# Altium schematic symbol library jlcpcb_2025_04_ferrites_extended_1812.schlib: 36 symbols
Pins are listed as number, name and electrical type; pins without a type are passive.

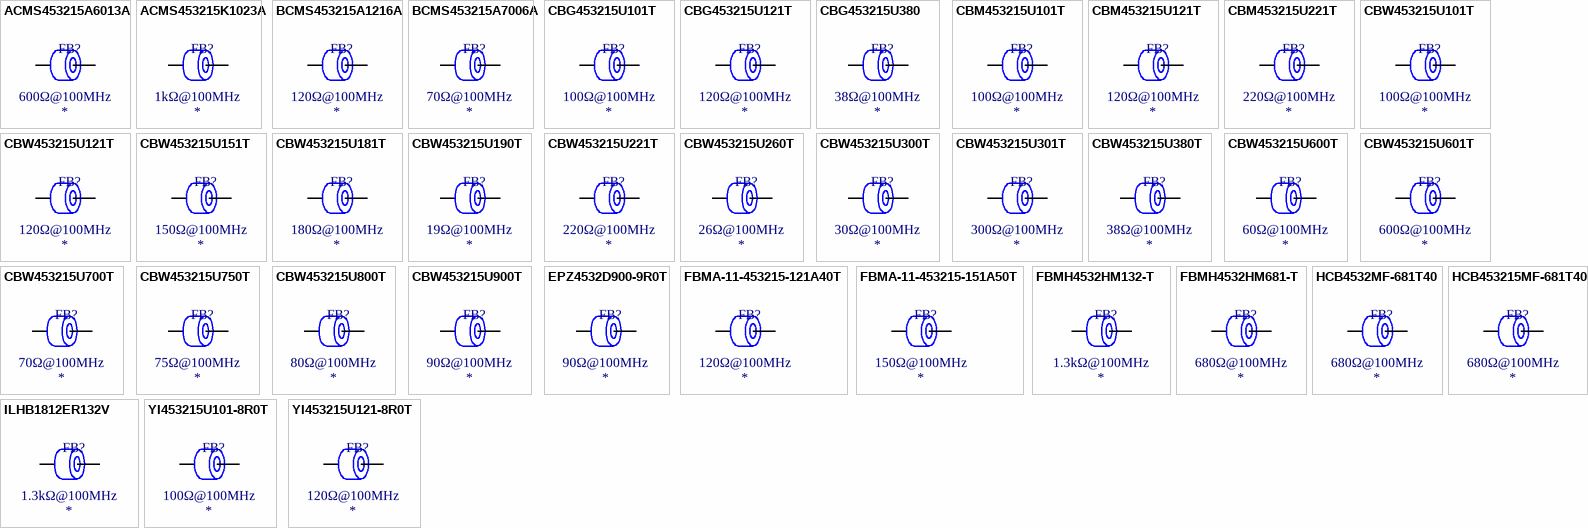
[diagram p0: symbols ACMS453215A6013A to YI453215U121-8R0T]

## ACMS453215A6013A
designator FB?  Impedance @ Frequency: 600Ω@100MHz
Ferrite, 600Ω@100MHz, ±25%, 3A, SMD 1812; Manufacturer: HYHONGYEX; Manufacturer Part Number: ACMS453215A6013A; Package Size: 1812; JLCPCB Basic Part: No; JLCPCB Part Number: C963903; Supplier 1: LCSC; Category: Ferrite Beads; Supplier Part Number 1: C963903; Tolerance: ±25%; Rated Current: 3A; RoHS: Yes; ComponentLink1Description: Datasheet; ComponentLink1URL: https://wmsc.lcsc.com/wmsc/upload/file/pdf/v2/lcsc/2012171914_HYHONGYEX-ACMS453215A6013A_C963903.pdf; ComponentLink2Description: JLCPCB Part URL; ComponentLink2URL: https://jlcpcb.com/partdetail/C963903; ComponentLink3Description: LCSC Part URL; ComponentLink3URL: https://lcsc.com/product-detail/Ferrite-Beads_HYHONGYEX-HYHONGYEX-ACMS453215A6013A_C963903.html
pins: 1, 2

## ACMS453215K1023A
designator FB?  Impedance @ Frequency: 1kΩ@100MHz
Ferrite, 1kΩ@100MHz, ±25%, 40mΩ, 3A, SMD 1812; Manufacturer: HYHONGYEX; Manufacturer Part Number: ACMS453215K1023A; Package Size: 1812; JLCPCB Basic Part: No; JLCPCB Part Number: C963904; Supplier 1: LCSC; Category: Ferrite Beads; Supplier Part Number 1: C963904; Tolerance: ±25%; Rated Current: 3A; DC Resistance: 40mΩ; RoHS: Yes; ComponentLink1Description: Datasheet; ComponentLink1URL: https://wmsc.lcsc.com/wmsc/upload/file/pdf/v2/lcsc/2012171914_HYHONGYEX-ACMS453215K1023A_C963904.pdf; ComponentLink2Description: JLCPCB Part URL; ComponentLink2URL: https://jlcpcb.com/partdetail/C963904; ComponentLink3Description: LCSC Part URL; ComponentLink3URL: https://lcsc.com/product-detail/Ferrite-Beads_HYHONGYEX-HYHONGYEX-ACMS453215K1023A_C963904.html
footprint FB-1812 (1812 (4532M) Ferrite)
pins: 1, 2

## BCMS453215A1216A
designator FB?  Impedance @ Frequency: 120Ω@100MHz
Ferrite, 120Ω@100MHz, ±25%, 20mΩ, 6A, SMD 1812; Manufacturer: HYHONGYEX; Manufacturer Part Number: BCMS453215A1216A; Package Size: 1812; JLCPCB Basic Part: No; JLCPCB Part Number: C963902; Supplier 1: LCSC; Category: Ferrite Beads; Supplier Part Number 1: C963902; Tolerance: ±25%; Rated Current: 6A; DC Resistance: 20mΩ; RoHS: Yes; ComponentLink1Description: Datasheet; ComponentLink1URL: https://wmsc.lcsc.com/wmsc/upload/file/pdf/v2/lcsc/2012171914_HYHONGYEX-BCMS453215A1216A_C963902.pdf; ComponentLink2Description: JLCPCB Part URL; ComponentLink2URL: https://jlcpcb.com/partdetail/C963902; ComponentLink3Description: LCSC Part URL; ComponentLink3URL: https://lcsc.com/product-detail/Ferrite-Beads_HYHONGYEX-HYHONGYEX-BCMS453215A1216A_C963902.html
footprint FB-1812 (1812 (4532M) Ferrite)
pins: 1, 2

## BCMS453215A7006A
designator FB?  Impedance @ Frequency: 70Ω@100MHz
Ferrite, 70Ω@100MHz, ±25%, 8mΩ, 6A, SMD 1812; Manufacturer: HYHONGYEX; Manufacturer Part Number: BCMS453215A7006A; Package Size: 1812; JLCPCB Basic Part: No; JLCPCB Part Number: C963899; Supplier 1: LCSC; Category: Ferrite Beads; Supplier Part Number 1: C963899; Tolerance: ±25%; Rated Current: 6A; DC Resistance: 8mΩ; RoHS: Yes; ComponentLink1Description: Datasheet; ComponentLink1URL: https://wmsc.lcsc.com/wmsc/upload/file/pdf/v2/lcsc/2012171914_HYHONGYEX-BCMS453215A7006A_C963899.pdf; ComponentLink2Description: JLCPCB Part URL; ComponentLink2URL: https://jlcpcb.com/partdetail/C963899; ComponentLink3Description: LCSC Part URL; ComponentLink3URL: https://lcsc.com/product-detail/Ferrite-Beads_HYHONGYEX-HYHONGYEX-BCMS453215A7006A_C963899.html
footprint FB-1812 (1812 (4532M) Ferrite)
pins: 1, 2

## CBG453215U101T
designator FB?  Impedance @ Frequency: 100Ω@100MHz
Ferrite, 100Ω@100MHz, ±25%, 200mΩ, 500mA, SMD 1812; Manufacturer: FH (Guangdong Fenghua Advanced Tech); Manufacturer Part Number: CBG453215U101T; Package Size: 1812; JLCPCB Basic Part: No; JLCPCB Part Number: C2894323; Supplier 1: LCSC; Category: Ferrite Beads; Supplier Part Number 1: C2894323; Tolerance: ±25%; Rated Current: 500mA; DC Resistance: 200mΩ; RoHS: Yes; ComponentLink1Description: Datasheet; ComponentLink1URL: https://wmsc.lcsc.com/wmsc/upload/file/pdf/v2/lcsc/2109100930_FH--Guangdong-Fenghua-Advanced-Tech-CBG453215U101T_C2894323.pdf; ComponentLink2Description: JLCPCB Part URL; ComponentLink2URL: https://jlcpcb.com/partdetail/C2894323; ComponentLink3Description: LCSC Part URL; ComponentLink3URL: https://lcsc.com/product-detail/Ferrite-Beads_FH-Guangdong-Fenghua-Advanced-Tech-FH-Guangdong-Fenghua-Advanced-Tech-CBG453215U101T_C2894323.html
footprint FB-1812 (1812 (4532M) Ferrite)
pins: 1, 2

## CBG453215U121T
designator FB?  Impedance @ Frequency: 120Ω@100MHz
Ferrite, 120Ω@100MHz, ±25%, 250mΩ, 500mA, SMD 1812; Manufacturer: FH(Guangdong Fenghua Advanced Tech); Manufacturer Part Number: CBG453215U121T; Package Size: 1812; JLCPCB Basic Part: No; JLCPCB Part Number: C75662; Supplier 1: LCSC; Category: Ferrite Beads; Supplier Part Number 1: C75662; Tolerance: ±25%; Rated Current: 500mA; DC Resistance: 250mΩ; RoHS: Yes; ComponentLink1Description: Datasheet; ComponentLink1URL: https://wmsc.lcsc.com/wmsc/upload/file/pdf/v2/lcsc/2304140030_FH--Guangdong-Fenghua-Advanced-Tech-CBG453215U121T_C75662.pdf; ComponentLink2Description: JLCPCB Part URL; ComponentLink2URL: https://jlcpcb.com/partdetail/C75662; ComponentLink3Description: LCSC Part URL; ComponentLink3URL: https://lcsc.com/product-detail/Ferrite-Beads_FH-Guangdong-Fenghua-Advanced-Tech-FH-Guangdong-Fenghua-Advanced-Tech-CBG453215U121T_C75662.html
footprint FB-1812 (1812 (4532M) Ferrite)
pins: 1, 2

## CBG453215U380
designator FB?  Impedance @ Frequency: 38Ω@100MHz
Ferrite, 38Ω@100MHz, ±25%, 150mΩ, 1A, SMD 1812; Manufacturer: FH(Guangdong Fenghua Advanced Tech); Manufacturer Part Number: CBG453215U380; Package Size: 1812; JLCPCB Basic Part: No; JLCPCB Part Number: C185918; Supplier 1: LCSC; Category: Ferrite Beads; Supplier Part Number 1: C185918; Tolerance: ±25%; Rated Current: 1A; DC Resistance: 150mΩ; RoHS: Yes; ComponentLink1Description: Datasheet; ComponentLink1URL: https://wmsc.lcsc.com/wmsc/upload/file/pdf/v2/lcsc/1810301112_FH--Guangdong-Fenghua-Advanced-Tech-CBG453215U380_C185918.pdf; ComponentLink2Description: JLCPCB Part URL; ComponentLink2URL: https://jlcpcb.com/partdetail/C185918; ComponentLink3Description: LCSC Part URL; ComponentLink3URL: https://lcsc.com/product-detail/Ferrite-Beads_FH-Guangdong-Fenghua-Advanced-Tech-FH-Guangdong-Fenghua-Advanced-Tech-CBG453215U380_C185918.html
footprint FB-1812 (1812 (4532M) Ferrite)
pins: 1, 2

## CBM453215U101T
designator FB?  Impedance @ Frequency: 100Ω@100MHz
Ferrite, 100Ω@100MHz, ±25%, 20mΩ, 6A, SMD 1812; Manufacturer: FH(Guangdong Fenghua Advanced Tech); Manufacturer Part Number: CBM453215U101T; Package Size: 1812; JLCPCB Basic Part: No; JLCPCB Part Number: C2894325; Supplier 1: LCSC; Category: Ferrite Beads; Supplier Part Number 1: C2894325; Tolerance: ±25%; Rated Current: 6A; DC Resistance: 20mΩ; RoHS: Yes; ComponentLink1Description: Datasheet; ComponentLink1URL: https://wmsc.lcsc.com/wmsc/upload/file/pdf/v2/lcsc/2109092030_FH--Guangdong-Fenghua-Advanced-Tech-CBM453215U101T_C2894325.pdf; ComponentLink2Description: JLCPCB Part URL; ComponentLink2URL: https://jlcpcb.com/partdetail/C2894325; ComponentLink3Description: LCSC Part URL; ComponentLink3URL: https://lcsc.com/product-detail/Ferrite-Beads_FH-Guangdong-Fenghua-Advanced-Tech-FH-Guangdong-Fenghua-Advanced-Tech-CBM453215U101T_C2894325.html
footprint FB-1812 (1812 (4532M) Ferrite)
pins: 1, 2

## CBM453215U121T
designator FB?  Impedance @ Frequency: 120Ω@100MHz
Ferrite, 120Ω@100MHz, ±25%, SMD 1812; Manufacturer: FH(Guangdong Fenghua Advanced Tech); Manufacturer Part Number: CBM453215U121T; Package Size: 1812; JLCPCB Basic Part: No; JLCPCB Part Number: C880393; Supplier 1: LCSC; Category: Ferrite Beads; Supplier Part Number 1: C880393; Tolerance: ±25%; RoHS: Yes; ComponentLink1Description: Datasheet; ComponentLink1URL: https://wmsc.lcsc.com/wmsc/upload/file/pdf/v2/lcsc/2010141936_FH--Guangdong-Fenghua-Advanced-Tech-CBM453215U121T_C880393.pdf; ComponentLink2Description: JLCPCB Part URL; ComponentLink2URL: https://jlcpcb.com/partdetail/C880393; ComponentLink3Description: LCSC Part URL; ComponentLink3URL: https://lcsc.com/product-detail/Ferrite-Beads_FH-Guangdong-Fenghua-Advanced-Tech-FH-Guangdong-Fenghua-Advanced-Tech-CBM453215U121T_C880393.html
pins: 1, 2

## CBM453215U221T
designator FB?  Impedance @ Frequency: 220Ω@100MHz
Ferrite, 220Ω@100MHz, ±25%, 0.02Ω, 6000mA, SMD 1812; Manufacturer: FH (Guangdong Fenghua Advanced Tech); Manufacturer Part Number: CBM453215U221T; Package Size: 1812; JLCPCB Basic Part: No; JLCPCB Part Number: C5344447; Supplier 1: LCSC; Category: Ferrite Beads; Supplier Part Number 1: C5344447; Tolerance: ±25%; Rated Current: 6000mA; DC Resistance: 0.02Ω; RoHS: Yes; ComponentLink1Description: Datasheet; ComponentLink1URL: https://wmsc.lcsc.com/wmsc/upload/file/pdf/v2/lcsc/2212281730_FH--Guangdong-Fenghua-Advanced-Tech-CBM453215U221T_C5344447.pdf; ComponentLink2Description: JLCPCB Part URL; ComponentLink2URL: https://jlcpcb.com/partdetail/C5344447; ComponentLink3Description: LCSC Part URL; ComponentLink3URL: https://lcsc.com/product-detail/Ferrite-Beads_FH-Guangdong-Fenghua-Advanced-Tech-FH-Guangdong-Fenghua-Advanced-Tech-CBM453215U221T_C5344447.html
footprint FB-1812 (1812 (4532M) Ferrite)
pins: 1, 2

## CBW453215U101T
designator FB?  Impedance @ Frequency: 100Ω@100MHz
Ferrite, 100Ω@100MHz, ±25%, 80mΩ, 4A, SMD 1812; Manufacturer: FH(Guangdong Fenghua Advanced Tech); Manufacturer Part Number: CBW453215U101T; Package Size: 1812; JLCPCB Basic Part: No; JLCPCB Part Number: C394519; Supplier 1: LCSC; Category: Ferrite Beads; Supplier Part Number 1: C394519; Tolerance: ±25%; Rated Current: 4A; DC Resistance: 80mΩ; RoHS: Yes; ComponentLink1Description: Datasheet; ComponentLink1URL: https://wmsc.lcsc.com/wmsc/upload/file/pdf/v2/lcsc/2304140030_FH--Guangdong-Fenghua-Advanced-Tech-CBW453215U101T_C394519.pdf; ComponentLink2Description: JLCPCB Part URL; ComponentLink2URL: https://jlcpcb.com/partdetail/C394519; ComponentLink3Description: LCSC Part URL; ComponentLink3URL: https://lcsc.com/product-detail/Ferrite-Beads_FH-Guangdong-Fenghua-Advanced-Tech-FH-Guangdong-Fenghua-Advanced-Tech-CBW453215U101T_C394519.html
footprint FB-1812 (1812 (4532M) Ferrite)
pins: 1, 2

## CBW453215U121T
designator FB?  Impedance @ Frequency: 120Ω@100MHz
Ferrite, 120Ω@100MHz, ±25%, 80mΩ, 4A, SMD 1812; Manufacturer: FH(Guangdong Fenghua Advanced Tech); Manufacturer Part Number: CBW453215U121T; Package Size: 1812; JLCPCB Basic Part: No; JLCPCB Part Number: C394520; Supplier 1: LCSC; Category: Ferrite Beads; Supplier Part Number 1: C394520; Tolerance: ±25%; Rated Current: 4A; DC Resistance: 80mΩ; RoHS: Yes; ComponentLink1Description: Datasheet; ComponentLink1URL: https://wmsc.lcsc.com/wmsc/upload/file/pdf/v2/lcsc/2304140030_FH--Guangdong-Fenghua-Advanced-Tech-CBW453215U121T_C394520.pdf; ComponentLink2Description: JLCPCB Part URL; ComponentLink2URL: https://jlcpcb.com/partdetail/C394520; ComponentLink3Description: LCSC Part URL; ComponentLink3URL: https://lcsc.com/product-detail/Ferrite-Beads_FH-Guangdong-Fenghua-Advanced-Tech-FH-Guangdong-Fenghua-Advanced-Tech-CBW453215U121T_C394520.html
footprint FB-1812 (1812 (4532M) Ferrite)
pins: 1, 2

## CBW453215U151T
designator FB?  Impedance @ Frequency: 150Ω@100MHz
Ferrite, 150Ω@100MHz, ±25%, 100mΩ, 3A, SMD 1812; Manufacturer: FH(Guangdong Fenghua Advanced Tech); Manufacturer Part Number: CBW453215U151T; Package Size: 1812; JLCPCB Basic Part: No; JLCPCB Part Number: C394521; Supplier 1: LCSC; Category: Ferrite Beads; Supplier Part Number 1: C394521; Tolerance: ±25%; Rated Current: 3A; DC Resistance: 100mΩ; RoHS: Yes; ComponentLink1Description: Datasheet; ComponentLink1URL: https://wmsc.lcsc.com/wmsc/upload/file/pdf/v2/lcsc/2304140030_FH--Guangdong-Fenghua-Advanced-Tech-CBW453215U151T_C394521.pdf; ComponentLink2Description: JLCPCB Part URL; ComponentLink2URL: https://jlcpcb.com/partdetail/C394521; ComponentLink3Description: LCSC Part URL; ComponentLink3URL: https://lcsc.com/product-detail/Ferrite-Beads_FH-Guangdong-Fenghua-Advanced-Tech-FH-Guangdong-Fenghua-Advanced-Tech-CBW453215U151T_C394521.html
footprint FB-1812 (1812 (4532M) Ferrite)
pins: 1, 2

## CBW453215U181T
designator FB?  Impedance @ Frequency: 180Ω@100MHz
Ferrite, 180Ω@100MHz, ±25%, 120mΩ, 3A, SMD 1812; Manufacturer: FH(Guangdong Fenghua Advanced Tech); Manufacturer Part Number: CBW453215U181T; Package Size: 1812; JLCPCB Basic Part: No; JLCPCB Part Number: C394522; Supplier 1: LCSC; Category: Ferrite Beads; Supplier Part Number 1: C394522; Tolerance: ±25%; Rated Current: 3A; DC Resistance: 120mΩ; RoHS: Yes; ComponentLink1Description: Datasheet; ComponentLink1URL: https://wmsc.lcsc.com/wmsc/upload/file/pdf/v2/lcsc/2304140030_FH--Guangdong-Fenghua-Advanced-Tech-CBW453215U181T_C394522.pdf; ComponentLink2Description: JLCPCB Part URL; ComponentLink2URL: https://jlcpcb.com/partdetail/C394522; ComponentLink3Description: LCSC Part URL; ComponentLink3URL: https://lcsc.com/product-detail/Ferrite-Beads_FH-Guangdong-Fenghua-Advanced-Tech-FH-Guangdong-Fenghua-Advanced-Tech-CBW453215U181T_C394522.html
footprint FB-1812 (1812 (4532M) Ferrite)
pins: 1, 2

## CBW453215U190T
designator FB?  Impedance @ Frequency: 19Ω@100MHz
Ferrite, 19Ω@100MHz, ±25%, SMD 1812; Manufacturer: FH(Guangdong Fenghua Advanced Tech); Manufacturer Part Number: CBW453215U190T; Package Size: 1812; JLCPCB Basic Part: No; JLCPCB Part Number: C394523; Supplier 1: LCSC; Category: Ferrite Beads; Supplier Part Number 1: C394523; Tolerance: ±25%; RoHS: Yes; ComponentLink1Description: Datasheet; ComponentLink1URL: https://wmsc.lcsc.com/wmsc/upload/file/pdf/v2/lcsc/1912111437_FH--Guangdong-Fenghua-Advanced-Tech-CBW453215U190T_C394523.pdf; ComponentLink2Description: JLCPCB Part URL; ComponentLink2URL: https://jlcpcb.com/partdetail/C394523; ComponentLink3Description: LCSC Part URL; ComponentLink3URL: https://lcsc.com/product-detail/Ferrite-Beads_FH-Guangdong-Fenghua-Advanced-Tech-FH-Guangdong-Fenghua-Advanced-Tech-CBW453215U190T_C394523.html
pins: 1, 2

## CBW453215U221T
designator FB?  Impedance @ Frequency: 220Ω@100MHz
Ferrite, 220Ω@100MHz, ±25%, 150mΩ, 2A, SMD 1812; Manufacturer: FH(Guangdong Fenghua Advanced Tech); Manufacturer Part Number: CBW453215U221T; Package Size: 1812; JLCPCB Basic Part: No; JLCPCB Part Number: C394524; Supplier 1: LCSC; Category: Ferrite Beads; Supplier Part Number 1: C394524; Tolerance: ±25%; Rated Current: 2A; DC Resistance: 150mΩ; RoHS: Yes; ComponentLink1Description: Datasheet; ComponentLink1URL: https://wmsc.lcsc.com/wmsc/upload/file/pdf/v2/lcsc/2304140030_FH--Guangdong-Fenghua-Advanced-Tech-CBW453215U221T_C394524.pdf; ComponentLink2Description: JLCPCB Part URL; ComponentLink2URL: https://jlcpcb.com/partdetail/C394524; ComponentLink3Description: LCSC Part URL; ComponentLink3URL: https://lcsc.com/product-detail/Ferrite-Beads_FH-Guangdong-Fenghua-Advanced-Tech-FH-Guangdong-Fenghua-Advanced-Tech-CBW453215U221T_C394524.html
footprint FB-1812 (1812 (4532M) Ferrite)
pins: 1, 2

## CBW453215U260T
designator FB?  Impedance @ Frequency: 26Ω@100MHz
Ferrite, 26Ω@100MHz, ±25%, SMD 1812; Manufacturer: FH(Guangdong Fenghua Advanced Tech); Manufacturer Part Number: CBW453215U260T; Package Size: 1812; JLCPCB Basic Part: No; JLCPCB Part Number: C394525; Supplier 1: LCSC; Category: Ferrite Beads; Supplier Part Number 1: C394525; Tolerance: ±25%; RoHS: Yes; ComponentLink1Description: Datasheet; ComponentLink1URL: https://wmsc.lcsc.com/wmsc/upload/file/pdf/v2/lcsc/2304140030_FH--Guangdong-Fenghua-Advanced-Tech-CBW453215U260T_C394525.pdf; ComponentLink2Description: JLCPCB Part URL; ComponentLink2URL: https://jlcpcb.com/partdetail/C394525; ComponentLink3Description: LCSC Part URL; ComponentLink3URL: https://lcsc.com/product-detail/Ferrite-Beads_FH-Guangdong-Fenghua-Advanced-Tech-FH-Guangdong-Fenghua-Advanced-Tech-CBW453215U260T_C394525.html
pins: 1, 2

## CBW453215U300T
designator FB?  Impedance @ Frequency: 30Ω@100MHz
Ferrite, 30Ω@100MHz, ±25%, 60mΩ, 5A, SMD 1812; Manufacturer: FH(Guangdong Fenghua Advanced Tech); Manufacturer Part Number: CBW453215U300T; Package Size: 1812; JLCPCB Basic Part: No; JLCPCB Part Number: C394526; Supplier 1: LCSC; Category: Ferrite Beads; Supplier Part Number 1: C394526; Tolerance: ±25%; Rated Current: 5A; DC Resistance: 60mΩ; RoHS: Yes; ComponentLink1Description: Datasheet; ComponentLink1URL: https://wmsc.lcsc.com/wmsc/upload/file/pdf/v2/lcsc/2304140030_FH--Guangdong-Fenghua-Advanced-Tech-CBW453215U300T_C394526.pdf; ComponentLink2Description: JLCPCB Part URL; ComponentLink2URL: https://jlcpcb.com/partdetail/C394526; ComponentLink3Description: LCSC Part URL; ComponentLink3URL: https://lcsc.com/product-detail/Ferrite-Beads_FH-Guangdong-Fenghua-Advanced-Tech-FH-Guangdong-Fenghua-Advanced-Tech-CBW453215U300T_C394526.html
footprint FB-1812 (1812 (4532M) Ferrite)
pins: 1, 2

## CBW453215U301T
designator FB?  Impedance @ Frequency: 300Ω@100MHz
Ferrite, 300Ω@100MHz, ±25%, 150mΩ, 2A, SMD 1812; Manufacturer: FH(Guangdong Fenghua Advanced Tech); Manufacturer Part Number: CBW453215U301T; Package Size: 1812; JLCPCB Basic Part: No; JLCPCB Part Number: C394527; Supplier 1: LCSC; Category: Ferrite Beads; Supplier Part Number 1: C394527; Tolerance: ±25%; Rated Current: 2A; DC Resistance: 150mΩ; RoHS: Yes; ComponentLink1Description: Datasheet; ComponentLink1URL: https://wmsc.lcsc.com/wmsc/upload/file/pdf/v2/lcsc/2304140030_FH--Guangdong-Fenghua-Advanced-Tech-CBW453215U301T_C394527.pdf; ComponentLink2Description: JLCPCB Part URL; ComponentLink2URL: https://jlcpcb.com/partdetail/C394527; ComponentLink3Description: LCSC Part URL; ComponentLink3URL: https://lcsc.com/product-detail/Ferrite-Beads_FH-Guangdong-Fenghua-Advanced-Tech-FH-Guangdong-Fenghua-Advanced-Tech-CBW453215U301T_C394527.html
footprint FB-1812 (1812 (4532M) Ferrite)
pins: 1, 2

## CBW453215U380T
designator FB?  Impedance @ Frequency: 38Ω@100MHz
Ferrite, 38Ω@100MHz, ±25%, 60mΩ, 5A, SMD 1812; Manufacturer: FH(Guangdong Fenghua Advanced Tech); Manufacturer Part Number: CBW453215U380T; Package Size: 1812; JLCPCB Basic Part: No; JLCPCB Part Number: C394528; Supplier 1: LCSC; Category: Ferrite Beads; Supplier Part Number 1: C394528; Tolerance: ±25%; Rated Current: 5A; DC Resistance: 60mΩ; RoHS: Yes; ComponentLink1Description: Datasheet; ComponentLink1URL: https://wmsc.lcsc.com/wmsc/upload/file/pdf/v2/lcsc/2304140030_FH--Guangdong-Fenghua-Advanced-Tech-CBW453215U380T_C394528.pdf; ComponentLink2Description: JLCPCB Part URL; ComponentLink2URL: https://jlcpcb.com/partdetail/C394528; ComponentLink3Description: LCSC Part URL; ComponentLink3URL: https://lcsc.com/product-detail/Ferrite-Beads_FH-Guangdong-Fenghua-Advanced-Tech-FH-Guangdong-Fenghua-Advanced-Tech-CBW453215U380T_C394528.html
footprint FB-1812 (1812 (4532M) Ferrite)
pins: 1, 2

## CBW453215U600T
designator FB?  Impedance @ Frequency: 60Ω@100MHz
Ferrite, 60Ω@100MHz, ±25%, 60mΩ, 4A, SMD 1812; Manufacturer: FH(Guangdong Fenghua Advanced Tech); Manufacturer Part Number: CBW453215U600T; Package Size: 1812; JLCPCB Basic Part: No; JLCPCB Part Number: C394529; Supplier 1: LCSC; Category: Ferrite Beads; Supplier Part Number 1: C394529; Tolerance: ±25%; Rated Current: 4A; DC Resistance: 60mΩ; RoHS: Yes; ComponentLink1Description: Datasheet; ComponentLink1URL: https://wmsc.lcsc.com/wmsc/upload/file/pdf/v2/lcsc/2304140030_FH--Guangdong-Fenghua-Advanced-Tech-CBW453215U600T_C394529.pdf; ComponentLink2Description: JLCPCB Part URL; ComponentLink2URL: https://jlcpcb.com/partdetail/C394529; ComponentLink3Description: LCSC Part URL; ComponentLink3URL: https://lcsc.com/product-detail/Ferrite-Beads_FH-Guangdong-Fenghua-Advanced-Tech-FH-Guangdong-Fenghua-Advanced-Tech-CBW453215U600T_C394529.html
footprint FB-1812 (1812 (4532M) Ferrite)
pins: 1, 2

## CBW453215U601T
designator FB?  Impedance @ Frequency: 600Ω@100MHz
Ferrite, 600Ω@100MHz, ±25%, 0.25Ω, 1000mA, SMD 1812; Manufacturer: FH (Guangdong Fenghua Advanced Tech); Manufacturer Part Number: CBW453215U601T; Package Size: 1812; JLCPCB Basic Part: No; JLCPCB Part Number: C5344427; Supplier 1: LCSC; Category: Ferrite Beads; Supplier Part Number 1: C5344427; Tolerance: ±25%; Rated Current: 1000mA; DC Resistance: 0.25Ω; RoHS: Yes; ComponentLink1Description: Datasheet; ComponentLink1URL: https://wmsc.lcsc.com/wmsc/upload/file/pdf/v2/lcsc/2212281730_FH--Guangdong-Fenghua-Advanced-Tech-CBW453215U601T_C5344427.pdf; ComponentLink2Description: JLCPCB Part URL; ComponentLink2URL: https://jlcpcb.com/partdetail/C5344427; ComponentLink3Description: LCSC Part URL; ComponentLink3URL: https://lcsc.com/product-detail/Ferrite-Beads_FH-Guangdong-Fenghua-Advanced-Tech-FH-Guangdong-Fenghua-Advanced-Tech-CBW453215U601T_C5344427.html
footprint FB-1812 (1812 (4532M) Ferrite)
pins: 1, 2

## CBW453215U700T
designator FB?  Impedance @ Frequency: 70Ω@100MHz
Ferrite, 70Ω@100MHz, ±25%, 60mΩ, 4A, SMD 1812; Manufacturer: FH(Guangdong Fenghua Advanced Tech); Manufacturer Part Number: CBW453215U700T; Package Size: 1812; JLCPCB Basic Part: No; JLCPCB Part Number: C394530; Supplier 1: LCSC; Category: Ferrite Beads; Supplier Part Number 1: C394530; Tolerance: ±25%; Rated Current: 4A; DC Resistance: 60mΩ; RoHS: Yes; ComponentLink1Description: Datasheet; ComponentLink1URL: https://wmsc.lcsc.com/wmsc/upload/file/pdf/v2/lcsc/2304140030_FH--Guangdong-Fenghua-Advanced-Tech-CBW453215U700T_C394530.pdf; ComponentLink2Description: JLCPCB Part URL; ComponentLink2URL: https://jlcpcb.com/partdetail/C394530; ComponentLink3Description: LCSC Part URL; ComponentLink3URL: https://lcsc.com/product-detail/Ferrite-Beads_FH-Guangdong-Fenghua-Advanced-Tech-FH-Guangdong-Fenghua-Advanced-Tech-CBW453215U700T_C394530.html
footprint FB-1812 (1812 (4532M) Ferrite)
pins: 1, 2

## CBW453215U750T
designator FB?  Impedance @ Frequency: 75Ω@100MHz
Ferrite, 75Ω@100MHz, ±25%, SMD 1812; Manufacturer: FH(Guangdong Fenghua Advanced Tech); Manufacturer Part Number: CBW453215U750T; Package Size: 1812; JLCPCB Basic Part: No; JLCPCB Part Number: C394531; Supplier 1: LCSC; Category: Ferrite Beads; Supplier Part Number 1: C394531; Tolerance: ±25%; RoHS: Yes; ComponentLink1Description: Datasheet; ComponentLink1URL: https://wmsc.lcsc.com/wmsc/upload/file/pdf/v2/lcsc/1912111437_FH--Guangdong-Fenghua-Advanced-Tech-CBW453215U750T_C394531.pdf; ComponentLink2Description: JLCPCB Part URL; ComponentLink2URL: https://jlcpcb.com/partdetail/C394531; ComponentLink3Description: LCSC Part URL; ComponentLink3URL: https://lcsc.com/product-detail/Ferrite-Beads_FH-Guangdong-Fenghua-Advanced-Tech-FH-Guangdong-Fenghua-Advanced-Tech-CBW453215U750T_C394531.html
pins: 1, 2

## CBW453215U800T
designator FB?  Impedance @ Frequency: 80Ω@100MHz
Ferrite, 80Ω@100MHz, ±25%, 80mΩ, 4A, SMD 1812; Manufacturer: FH(Guangdong Fenghua Advanced Tech); Manufacturer Part Number: CBW453215U800T; Package Size: 1812; JLCPCB Basic Part: No; JLCPCB Part Number: C394532; Supplier 1: LCSC; Category: Ferrite Beads; Supplier Part Number 1: C394532; Tolerance: ±25%; Rated Current: 4A; DC Resistance: 80mΩ; RoHS: Yes; ComponentLink1Description: Datasheet; ComponentLink1URL: https://wmsc.lcsc.com/wmsc/upload/file/pdf/v2/lcsc/2304140030_FH--Guangdong-Fenghua-Advanced-Tech-CBW453215U800T_C394532.pdf; ComponentLink2Description: JLCPCB Part URL; ComponentLink2URL: https://jlcpcb.com/partdetail/C394532; ComponentLink3Description: LCSC Part URL; ComponentLink3URL: https://lcsc.com/product-detail/Ferrite-Beads_FH-Guangdong-Fenghua-Advanced-Tech-FH-Guangdong-Fenghua-Advanced-Tech-CBW453215U800T_C394532.html
footprint FB-1812 (1812 (4532M) Ferrite)
pins: 1, 2

## CBW453215U900T
designator FB?  Impedance @ Frequency: 90Ω@100MHz
Ferrite, 90Ω@100MHz, ±25%, 80mΩ, 4A, SMD 1812; Manufacturer: FH(Guangdong Fenghua Advanced Tech); Manufacturer Part Number: CBW453215U900T; Package Size: 1812; JLCPCB Basic Part: No; JLCPCB Part Number: C304174; Supplier 1: LCSC; Category: Ferrite Beads; Supplier Part Number 1: C304174; Tolerance: ±25%; Rated Current: 4A; DC Resistance: 80mΩ; RoHS: Yes; ComponentLink1Description: Datasheet; ComponentLink1URL: https://wmsc.lcsc.com/wmsc/upload/file/pdf/v2/lcsc/1912111437_FH--Guangdong-Fenghua-Advanced-Tech-CBW453215U900T_C304174.pdf; ComponentLink2Description: JLCPCB Part URL; ComponentLink2URL: https://jlcpcb.com/partdetail/C304174; ComponentLink3Description: LCSC Part URL; ComponentLink3URL: https://lcsc.com/product-detail/Ferrite-Beads_FH-Guangdong-Fenghua-Advanced-Tech-FH-Guangdong-Fenghua-Advanced-Tech-CBW453215U900T_C304174.html
footprint FB-1812 (1812 (4532M) Ferrite)
pins: 1, 2

## EPZ4532D900-9R0T
designator FB?  Impedance @ Frequency: 90Ω@100MHz
Ferrite, 90Ω@100MHz, ±25%, 4mΩ, 9A, SMD 1812; Manufacturer: Sunlord; Manufacturer Part Number: EPZ4532D900-9R0T; Package Size: 1812; JLCPCB Basic Part: No; JLCPCB Part Number: C2981725; Supplier 1: LCSC; Category: Ferrite Beads; Supplier Part Number 1: C2981725; Tolerance: ±25%; Rated Current: 9A; DC Resistance: 4mΩ; RoHS: Yes; ComponentLink1Description: Datasheet; ComponentLink1URL: https://wmsc.lcsc.com/wmsc/upload/file/pdf/v2/lcsc/2310301640_Sunlord-EPZ4532D900-9R0T_C2981725.pdf; ComponentLink2Description: JLCPCB Part URL; ComponentLink2URL: https://jlcpcb.com/partdetail/C2981725; ComponentLink3Description: LCSC Part URL; ComponentLink3URL: https://lcsc.com/product-detail/Ferrite-Beads_Sunlord-Sunlord-EPZ4532D900-9R0T_C2981725.html
footprint FB-1812 (1812 (4532M) Ferrite)
pins: 1, 2

## FBMA-11-453215-121A40T
designator FB?  Impedance @ Frequency: 120Ω@100MHz
Ferrite, 120Ω@100MHz, ±25%, 30mΩ, 4A, SMD 1812; Manufacturer: Kingcore; Manufacturer Part Number: FBMA-11-453215-121A40T; Package Size: 1812; JLCPCB Basic Part: No; JLCPCB Part Number: C491661; Supplier 1: LCSC; Category: Ferrite Beads; Supplier Part Number 1: C491661; Tolerance: ±25%; Rated Current: 4A; DC Resistance: 30mΩ; RoHS: Yes; ComponentLink1Description: Datasheet; ComponentLink1URL: https://datasheet.lcsc.com/lcsc/2003182012_Kingcore-FBMA-11-453215-121A40T_C491661.pdf; ComponentLink2Description: JLCPCB Part URL; ComponentLink2URL: https://jlcpcb.com/partdetail/C491661; ComponentLink3Description: LCSC Part URL; ComponentLink3URL: https://lcsc.com/product-detail/Ferrite-Beads_Kingcore-Kingcore-FBMA-11-453215-121A40T_C491661.html
footprint FB-1812 (1812 (4532M) Ferrite)
pins: 1, 2

## FBMA-11-453215-151A50T
designator FB?  Impedance @ Frequency: 150Ω@100MHz
Ferrite, 150Ω@100MHz, ±25%, 20mΩ, 5A, SMD 1812; Manufacturer: Kingcore; Manufacturer Part Number: FBMA-11-453215-151A50T; Package Size: 1812; JLCPCB Basic Part: No; JLCPCB Part Number: C491664; Supplier 1: LCSC; Category: Ferrite Beads; Supplier Part Number 1: C491664; Tolerance: ±25%; Rated Current: 5A; DC Resistance: 20mΩ; RoHS: Yes; ComponentLink1Description: Datasheet; ComponentLink1URL: https://datasheet.lcsc.com/lcsc/2003182012_Kingcore-FBMA-11-453215-151A50T_C491664.pdf; ComponentLink2Description: JLCPCB Part URL; ComponentLink2URL: https://jlcpcb.com/partdetail/C491664; ComponentLink3Description: LCSC Part URL; ComponentLink3URL: https://lcsc.com/product-detail/Ferrite-Beads_Kingcore-Kingcore-FBMA-11-453215-151A50T_C491664.html
footprint FB-1812 (1812 (4532M) Ferrite)
pins: 1, 2

## FBMH4532HM132-T
designator FB?  Impedance @ Frequency: 1.3kΩ@100MHz
Ferrite, 1.3kΩ@100MHz, ±25%, 0.06Ω, 3A, SMD 1812; Manufacturer: Taiyo Yuden; Manufacturer Part Number: FBMH4532HM132-T; Package Size: 1812; JLCPCB Basic Part: No; JLCPCB Part Number: C2661410; Supplier 1: LCSC; Category: Ferrite Beads; Supplier Part Number 1: C2661410; Tolerance: ±25%; Rated Current: 3A; DC Resistance: 0.06Ω; RoHS: Yes; ComponentLink1Description: Datasheet; ComponentLink1URL: https://wmsc.lcsc.com/wmsc/upload/file/pdf/v2/lcsc/2309051352_Taiyo-Yuden-FBMH4532HM132-T_C2661410.pdf; ComponentLink2Description: JLCPCB Part URL; ComponentLink2URL: https://jlcpcb.com/partdetail/C2661410; ComponentLink3Description: LCSC Part URL; ComponentLink3URL: https://lcsc.com/product-detail/Ferrite-Beads_Taiyo-Yuden-Taiyo-Yuden-FBMH4532HM132-T_C2661410.html
footprint FB-1812 (1812 (4532M) Ferrite)
pins: 1, 2

## FBMH4532HM681-T
designator FB?  Impedance @ Frequency: 680Ω@100MHz
Ferrite, 680Ω@100MHz, ±25%, 28mΩ, 4A, SMD 1812; Manufacturer: Taiyo Yuden; Manufacturer Part Number: FBMH4532HM681-T; Package Size: 1812; JLCPCB Basic Part: No; JLCPCB Part Number: C92881; Supplier 1: LCSC; Category: Ferrite Beads; Supplier Part Number 1: C92881; Tolerance: ±25%; Rated Current: 4A; DC Resistance: 28mΩ; RoHS: Yes; ComponentLink1Description: Datasheet; ComponentLink1URL: https://wmsc.lcsc.com/wmsc/upload/file/pdf/v2/lcsc/1810221842_Taiyo-Yuden-FBMH4532HM681-T_C92881.pdf; ComponentLink2Description: JLCPCB Part URL; ComponentLink2URL: https://jlcpcb.com/partdetail/C92881; ComponentLink3Description: LCSC Part URL; ComponentLink3URL: https://lcsc.com/product-detail/Ferrite-Beads_Taiyo-Yuden-Taiyo-Yuden-FBMH4532HM681-T_C92881.html
footprint FB-1812 (1812 (4532M) Ferrite)
pins: 1, 2

## HCB4532MF-681T40
designator FB?  Impedance @ Frequency: 680Ω@100MHz
Ferrite, 680Ω@100MHz, ±25%, 30mΩ, 4A, SMD 1812; Manufacturer: TAI-TECH; Manufacturer Part Number: HCB4532MF-681T40; Package Size: 1812; JLCPCB Basic Part: No; JLCPCB Part Number: C2880053; Supplier 1: LCSC; Category: Ferrite Beads; Supplier Part Number 1: C2880053; Tolerance: ±25%; Rated Current: 4A; DC Resistance: 30mΩ; RoHS: Yes; ComponentLink1Description: Datasheet; ComponentLink1URL: https://wmsc.lcsc.com/wmsc/upload/file/pdf/v2/lcsc/2108250930_TAI-TECH-HCB4532MF-681T40_C2880053.pdf; ComponentLink2Description: JLCPCB Part URL; ComponentLink2URL: https://jlcpcb.com/partdetail/C2880053; ComponentLink3Description: LCSC Part URL; ComponentLink3URL: https://lcsc.com/product-detail/Ferrite-Beads_TAI-TECH-TAI-TECH-HCB4532MF-681T40_C2880053.html
footprint FB-1812 (1812 (4532M) Ferrite)
pins: 1, 2

## HCB453215MF-681T40
designator FB?  Impedance @ Frequency: 680Ω@100MHz
Ferrite, 680Ω@100MHz, ±25%, 30mΩ, 4A, SMD 1812; Manufacturer: TAI-TECH; Manufacturer Part Number: HCB453215MF-681T40; Package Size: 1812; JLCPCB Basic Part: No; JLCPCB Part Number: C2932313; Supplier 1: LCSC; Category: Ferrite Beads; Supplier Part Number 1: C2932313; Tolerance: ±25%; Rated Current: 4A; DC Resistance: 30mΩ; RoHS: Yes; ComponentLink1Description: Datasheet; ComponentLink1URL: https://wmsc.lcsc.com/wmsc/upload/file/pdf/v2/lcsc/2201181830_TAI-TECH-HCB453215MF-681T40_C2932313.pdf; ComponentLink2Description: JLCPCB Part URL; ComponentLink2URL: https://jlcpcb.com/partdetail/C2932313; ComponentLink3Description: LCSC Part URL; ComponentLink3URL: https://lcsc.com/product-detail/Ferrite-Beads_TAI-TECH-TAI-TECH-HCB453215MF-681T40_C2932313.html
footprint FB-1812 (1812 (4532M) Ferrite)
pins: 1, 2

## ILHB1812ER132V
designator FB?  Impedance @ Frequency: 1.3kΩ@100MHz
Ferrite, 1.3kΩ@100MHz, ±25%, 50mΩ, 3A, SMD 1812; Manufacturer: Vishay Intertech; Manufacturer Part Number: ILHB1812ER132V; Package Size: 1812; JLCPCB Basic Part: No; JLCPCB Part Number: C2661993; Supplier 1: LCSC; Category: Ferrite Beads; Supplier Part Number 1: C2661993; Tolerance: ±25%; Rated Current: 3A; DC Resistance: 50mΩ; RoHS: Yes; ComponentLink1Description: Datasheet; ComponentLink1URL: https://wmsc.lcsc.com/wmsc/upload/file/pdf/v2/lcsc/2106071735_Vishay-Intertech-ILHB1812ER132V_C2661993.pdf; ComponentLink2Description: JLCPCB Part URL; ComponentLink2URL: https://jlcpcb.com/partdetail/C2661993; ComponentLink3Description: LCSC Part URL; ComponentLink3URL: https://lcsc.com/product-detail/Ferrite-Beads_Vishay-Intertech-Vishay-Intertech-ILHB1812ER132V_C2661993.html
footprint FB-1812 (1812 (4532M) Ferrite)
pins: 1, 2

## YI453215U101-8R0T
designator FB?  Impedance @ Frequency: 100Ω@100MHz
Ferrite, 100Ω@100MHz, ±25%, 0.01Ω, 8A, SMD 1812; Manufacturer: YJYCOIN; Manufacturer Part Number: YI453215U101-8R0T; Package Size: 1812; JLCPCB Basic Part: No; JLCPCB Part Number: C2926397; Supplier 1: LCSC; Category: Ferrite Beads; Supplier Part Number 1: C2926397; Tolerance: ±25%; Rated Current: 8A; DC Resistance: 0.01Ω; RoHS: Yes; ComponentLink1Description: Datasheet; ComponentLink1URL: https://wmsc.lcsc.com/wmsc/upload/file/pdf/v2/lcsc/2112021230_YJYCOIN-YI453215U101-8R0T_C2926397.pdf; ComponentLink2Description: JLCPCB Part URL; ComponentLink2URL: https://jlcpcb.com/partdetail/C2926397; ComponentLink3Description: LCSC Part URL; ComponentLink3URL: https://lcsc.com/product-detail/Ferrite-Beads_YJYCOIN-YJYCOIN-YI453215U101-8R0T_C2926397.html
footprint FB-1812 (1812 (4532M) Ferrite)
pins: 1, 2

## YI453215U121-8R0T
designator FB?  Impedance @ Frequency: 120Ω@100MHz
Ferrite, 120Ω@100MHz, ±25%, 10mΩ, 8A, SMD 1812; Manufacturer: YJYCOIN; Manufacturer Part Number: YI453215U121-8R0T; Package Size: 1812; JLCPCB Basic Part: No; JLCPCB Part Number: C2858475; Supplier 1: LCSC; Category: Ferrite Beads; Supplier Part Number 1: C2858475; Tolerance: ±25%; Rated Current: 8A; DC Resistance: 10mΩ; RoHS: Yes; ComponentLink1Description: Datasheet; ComponentLink1URL: https://wmsc.lcsc.com/wmsc/upload/file/pdf/v2/lcsc/2401091533_YJYCOIN-YI453215U121-8R0T_C2858475.pdf; ComponentLink2Description: JLCPCB Part URL; ComponentLink2URL: https://jlcpcb.com/partdetail/C2858475; ComponentLink3Description: LCSC Part URL; ComponentLink3URL: https://lcsc.com/product-detail/Ferrite-Beads_YJYCOIN-YJYCOIN-YI453215U121-8R0T_C2858475.html
footprint FB-1812 (1812 (4532M) Ferrite)
pins: 1, 2